# Altium footprint library Resistor.PcbLib: 1 footprints
Each footprint in its own frame and in the unit in brackets; x right, y up, seen from the top. Pads: shape width x height; smd on the part's side, far side on the other; paste and mask are expansions set on the pad; w line width, h text height; cw(c..) or ccw(c..) is an arc to the next point about the centre after c.
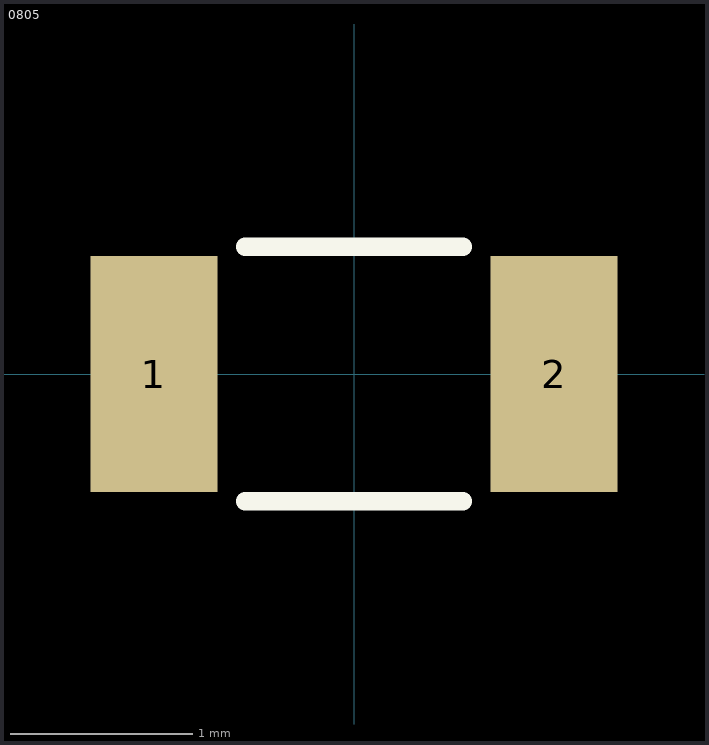
[diagram p0: the footprint, top view; thin cyan lines are the x and y axes]

## 0805 [mm]
pads (2):
  rect 0.7x1.3 smd: 1(-1.1,0) 2(1.1,0)
Top Overlay:
  lines w0.1: -0.6,-0.7 0.6,-0.7 ; -0.6,0.7 0.6,0.7
3D body "R_0805.step": height 0.5, standoff 0, extent -1,-0.625 1,0.625